# Altium schematic symbol library Diodo SMD Schottky 0402.SchLib: 1 symbol
Pins are listed as number, name and electrical type; pins without a type are passive.

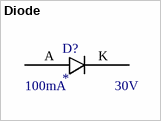
[diagram p0: symbol Diode]

## Diode
designator D?  Voltage: 30V  Average Forward: 100mA
Diode Schottky 30V 100mA Surface Mount 0402/SOD-923F; Manufacturer: Comchip Technology; Manufacturer PN: CDBQR0130L; Digi Key PN: 641-1271-1-ND; ComponentLink1Description: Datasheet; ComponentLink1URL: http://www.comchiptech.com/admin/files/product/CDBQR0130L-HF-RevD.pdf
footprint PCBComponent_1
pins: A, K